# Altium footprint library Transformer.PcbLib: 2 footprints
Each footprint in its own frame and in the unit in brackets; x right, y up, seen from the top. Pads: shape width x height; smd on the part's side, far side on the other; paste and mask are expansions set on the pad; w line width, h text height; cw(c..) or ccw(c..) is an arc to the next point about the centre after c.
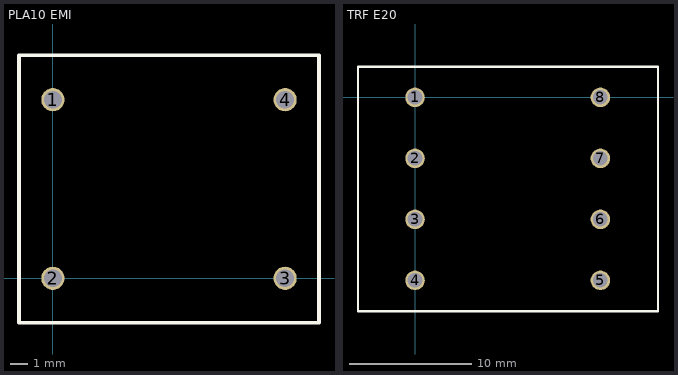
[diagram p0: the footprints below, top view; thin cyan lines are the x and y axes]

## PLA10 EMI [mm]
pads (4):
  round 1.3 hole 1: 1(0,10) 2(0,0) 3(13,0) 4(13,10)
Top Overlay:
  lines w0.2: -1.9,-2.5 14.9,-2.5 14.9,12.5 -1.9,12.5 -1.9,-2.5
3D body: height 16.3, standoff -3.3, extent -1.885,-2.5 14.907,12.5

## TRF E20 [mm]
height 0.025
pads (8):
  round 1.6 hole 1.2: 1(0,0) 2(0,-5) 3(0,-10) 4(0,-15) 5(15.2,-15) 6(15.2,-10) 7(15.2,-5) 8(15.2,0)
Top Overlay:
  lines w0.2: -4.675,-17.525 -4.675,2.5 19.925,2.5 19.925,-17.525 -4.675,-17.525
3D body: height 15.75, standoff -3.5, extent -4.675,-17.515 19.925,2.485